# EAGLE library part LM2842XMK-ADJL (library 3DRobotics_Master_Library)
National Semiconductor 600mA up to 42V input step-down DC/DC switching regulator Configurable output voltage (3.3V, 5V), low profile package.
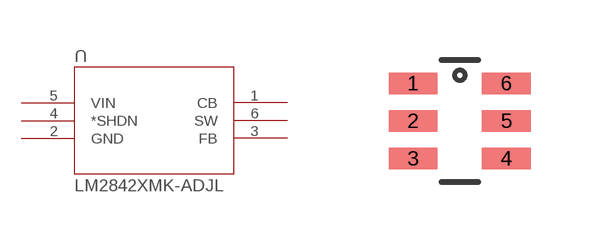
[diagram p18: symbol with the pads of MK06A; footprint MK06A]

Designator prefix U

## LM2842XMK-ADJLTSOT-6L (DATASHEET: http://www.national.com/ds/LM/LM2841.pdf; LINK: http://www.national.com/pf/LM/LM2842.html; MFGPN: LM2842XMK-ADJL/NOPB)  [MK06A]
1  CB  pas
2  GND  pas
3  FB  pas
4  *SHDN  pas
5  VIN  pas
6  SW  pas

## Footprint MK06A (pad centres in mm)
smd 1.219 x 0.533: 1 -1.168,0.94; 2 -1.168,0; 3 -1.168,-0.94; 4 1.168,-0.94; 5 1.168,0; 6 1.168,0.94